# Altium schematic symbol library BQ34Z100PW-G1.SchLib: 1 symbol
Pins are listed as number, name and electrical type; pins without a type are passive.

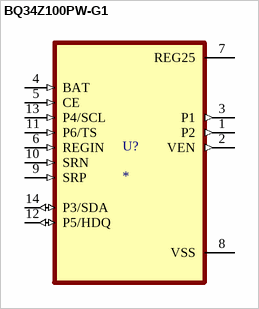
[diagram p0: symbol BQ34Z100PW-G1]

## BQ34Z100PW-G1
designator U?
MF: {'manufacturer': u'Texas Instruments'}; MP: BQ34Z100PW-G1; Package: None; Price: None; Value: *; Availability: Unavailable
footprint SOP65P640X120-14N
pins: 1 P2 (out), 2 VEN (out), 3 P1 (out), 4 BAT (in), 5 CE (in), 6 REGIN (in), 7 REG25 (power), 8 VSS (power), 9 SRP (in), 10 SRN (in), 11 P6/TS (in), 12 P5/HDQ (io), 13 P4/SCL (in), 14 P3/SDA (io)